# Altium footprint library SOP.PcbLib: 214 footprints (part 8 of 14)
Each footprint in its own frame and in the unit in brackets; x right, y up, seen from the top. Pads: shape width x height; smd on the part's side, far side on the other; paste and mask are expansions set on the pad; w line width, h text height; cw(c..) or ccw(c..) is an arc to the next point about the centre after c.
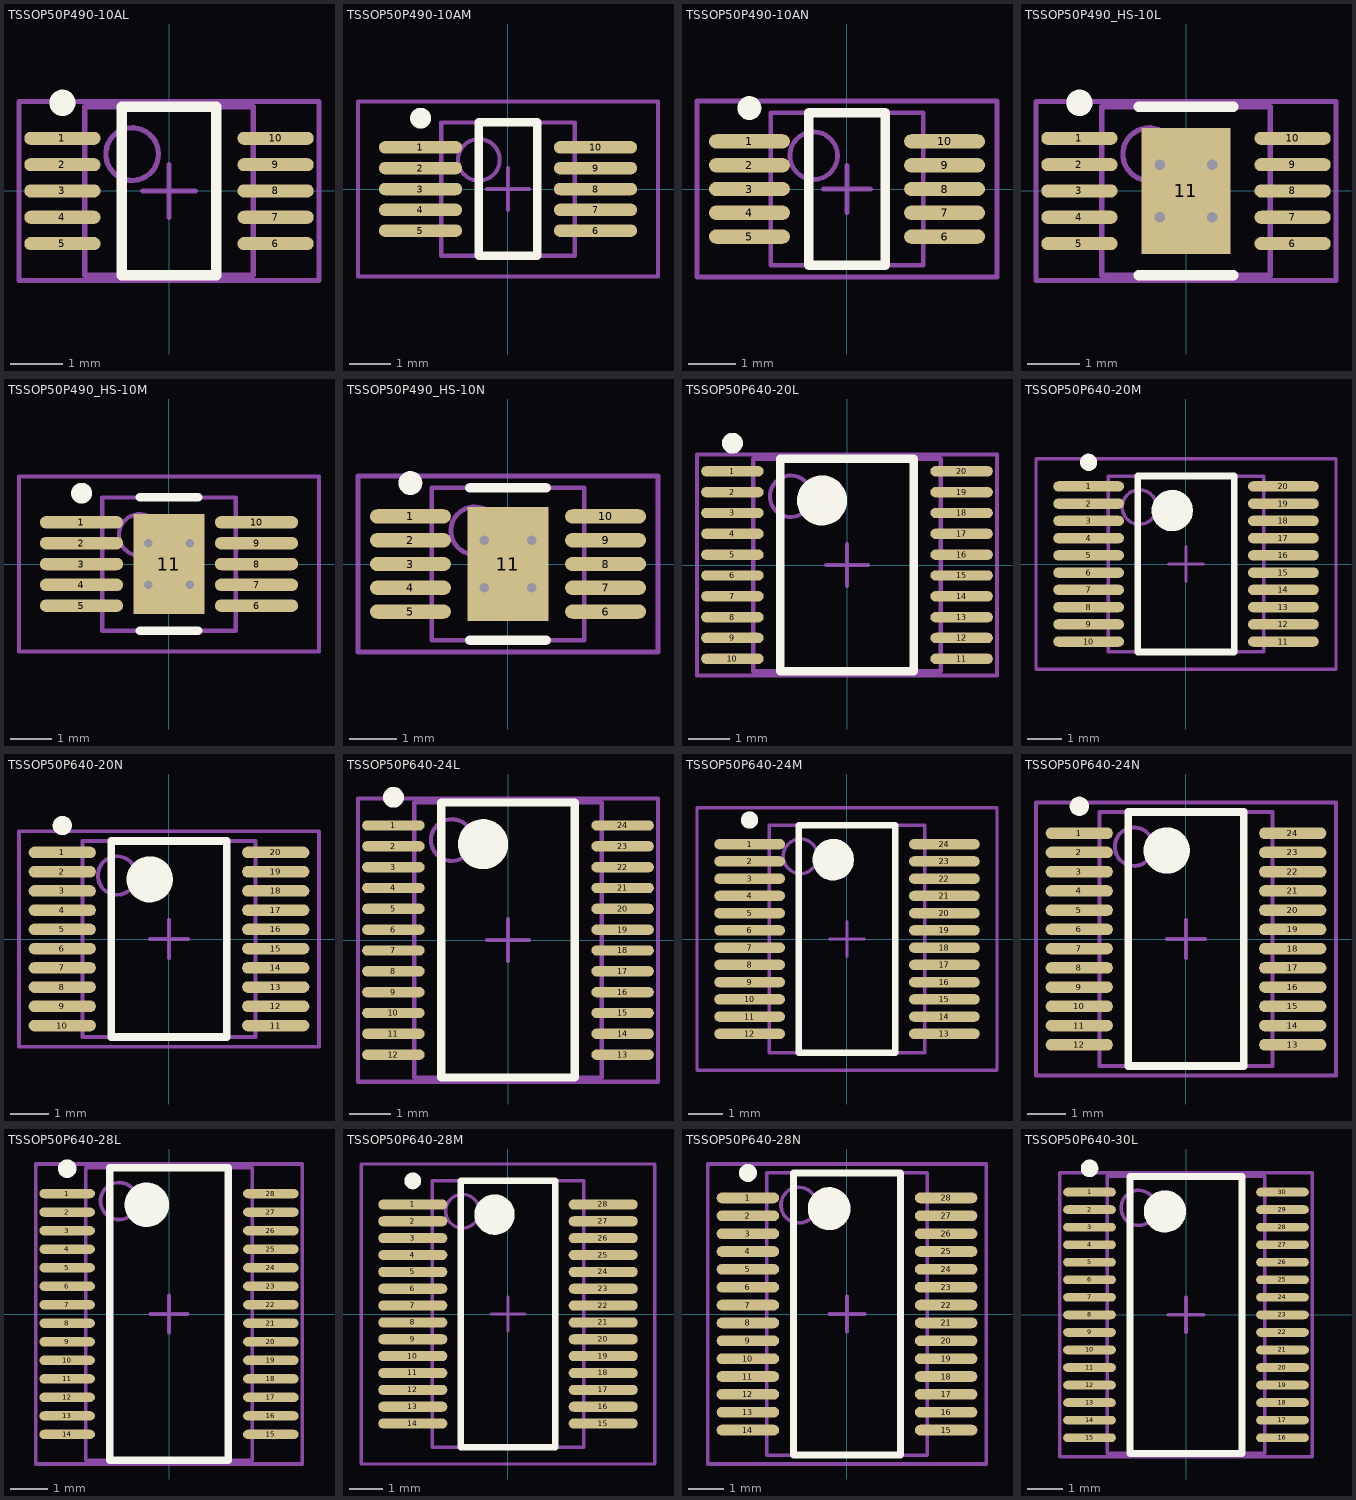
[diagram p7: the footprints below, top view; thin cyan lines are the x and y axes]

## TSSOP50P490-10AL [mm] "TSSOP, 10-Leads, Body 3x3mm, Pitch 0.5mm, IPC High Density"
height 1.1
pads (10):
  oval 1.45x0.25 smd: 1(-2.025,1) 2(-2.025,0.5) 3(-2.025,0) 4(-2.025,-0.5) 5(-2.025,-1) 6(2.025,-1) 7(2.025,-0.5) 8(2.025,0) 9(2.025,0.5) 10(2.025,1)
Top Overlay:
  circle w0.25: c-2.025,1.675 r0.125
  lines w0.2: -0.9,-1.6 -0.9,1.6 0.9,1.6 0.9,-1.6 -0.9,-1.6
Mechanical 13:
  circle w0.1: c-0.7,0.7 r0.5
  lines w0.1: -1.6,-1.6 -1.6,1.6 1.6,1.6 1.6,-1.6 -1.6,-1.6
Mechanical 15:
  lines w0.1: -0.5,0 0.5,0 ; 0,-0.5 0,0.5 ; -2.85,-1.7 -2.85,1.7 2.85,1.7 2.85,-1.7 -2.85,-1.7
3D body: height 1.1, standoff 0, extent -1.6,-1.6 1.6,1.6

## TSSOP50P490-10AM [mm] "TSSOP, 10-Leads, Body 3x3mm, Pitch 0.5mm, IPC Low Density"
height 1.1
pads (10):
  oval 2x0.3 smd: 1(-2.1,1) 2(-2.1,0.5) 3(-2.1,0) 4(-2.1,-0.5) 5(-2.1,-1) 6(2.1,-1) 7(2.1,-0.5) 8(2.1,0) 9(2.1,0.5) 10(2.1,1)
Top Overlay:
  circle w0.25: c-2.1,1.7 r0.125
  lines w0.2: -0.7,-1.6 0.7,-1.6 0.7,1.6 -0.7,1.6 -0.7,-1.6
Mechanical 13:
  circle w0.1: c-0.7,0.7 r0.5
  lines w0.1: -1.6,-1.6 1.6,-1.6 1.6,1.6 -1.6,1.6 -1.6,-1.6
Mechanical 15:
  lines w0.1: -0.5,0 0.5,0 ; 0,-0.5 0,0.5 ; -3.6,-2.1 3.6,-2.1 3.6,2.1 -3.6,2.1 -3.6,-2.1
3D body: height 1.1, standoff 0, extent -1.6,-1.6 1.6,1.6

## TSSOP50P490-10AN [mm] "TSSOP, 10-Leads, Body 3x3mm, Pitch 0.5mm, IPC Medium Density"
height 1.1
pads (10):
  oval 1.7x0.3 smd: 1(-2.05,1) 2(-2.05,0.5) 3(-2.05,0) 4(-2.05,-0.5) 5(-2.05,-1) 6(2.05,-1) 7(2.05,-0.5) 8(2.05,0) 9(2.05,0.5) 10(2.05,1)
Top Overlay:
  circle w0.25: c-2.05,1.7 r0.125
  lines w0.2: -0.8,-1.6 0.8,-1.6 0.8,1.6 -0.8,1.6 -0.8,-1.6
Mechanical 13:
  circle w0.1: c-0.7,0.7 r0.5
  lines w0.1: -1.6,-1.6 1.6,-1.6 1.6,1.6 -1.6,1.6 -1.6,-1.6
Mechanical 15:
  lines w0.1: -0.5,0 0.5,0 ; 0,-0.5 0,0.5 ; -3.15,-1.85 3.15,-1.85 3.15,1.85 -3.15,1.85 -3.15,-1.85
3D body: height 1.1, standoff 0, extent -1.6,-1.6 1.6,1.6

## TSSOP50P490_HS-10L [mm] "TSSOP, 10-Leads, Body 3x3mm, Pitch 0.5mm, Exposed Pad, IPC High Density"
height 1.1
pads (11):
  oval 1.45x0.25 smd: 1(-2.025,1) 2(-2.025,0.5) 3(-2.025,0) 4(-2.025,-0.5) 5(-2.025,-1) 6(2.025,-1) 7(2.025,-0.5) 8(2.025,0) 9(2.025,0.5) 10(2.025,1)
  rect 1.7x2.4 smd: 11(0,0)
via -0.5,0.5 diameter 0.4 hole 0.2
via 0.5,0.5 diameter 0.4 hole 0.2
via -0.5,-0.5 diameter 0.4 hole 0.2
via 0.5,-0.5 diameter 0.4 hole 0.2
Top Overlay:
  circle w0.25: c-2.025,1.675 r0.125
  lines w0.2: -0.9,-1.6 0.9,-1.6 ; -0.9,1.6 0.9,1.6
Mechanical 13:
  circle w0.1: c-0.7,0.7 r0.5
  lines w0.1: -1.6,-1.6 -1.6,1.6 1.6,1.6 1.6,-1.6 -1.6,-1.6
Mechanical 15:
  lines w0.1: -0.5,0 0.5,0 ; 0,-0.5 0,0.5 ; -2.85,-1.7 -2.85,1.7 2.85,1.7 2.85,-1.7 -2.85,-1.7
3D body: height 1.1, standoff 0.05, extent -1.6,-1.6 1.6,1.6

## TSSOP50P490_HS-10M [mm] "TSSOP, 10-Leads, Body 3x3mm, Pitch 0.5mm, Exposed Pad, IPC Low Density"
height 1.1
pads (11):
  oval 2x0.3 smd: 1(-2.1,1) 2(-2.1,0.5) 3(-2.1,0) 4(-2.1,-0.5) 5(-2.1,-1) 6(2.1,-1) 7(2.1,-0.5) 8(2.1,0) 9(2.1,0.5) 10(2.1,1)
  rect 1.7x2.4 smd: 11(0,0)
via -0.5,0.5 diameter 0.4 hole 0.2
via 0.5,0.5 diameter 0.4 hole 0.2
via -0.5,-0.5 diameter 0.4 hole 0.2
via 0.5,-0.5 diameter 0.4 hole 0.2
Top Overlay:
  circle w0.25: c-2.1,1.7 r0.125
  lines w0.2: -0.7,-1.6 0.7,-1.6 ; -0.7,1.6 0.7,1.6
Mechanical 13:
  circle w0.1: c-0.7,0.7 r0.5
  lines w0.1: -1.6,-1.6 1.6,-1.6 1.6,1.6 -1.6,1.6 -1.6,-1.6
Mechanical 15:
  lines w0.1: -0.5,0 0.5,0 ; 0,-0.5 0,0.5 ; -3.6,-2.1 3.6,-2.1 3.6,2.1 -3.6,2.1 -3.6,-2.1
3D body: height 1.1, standoff 0.05, extent -1.6,-1.6 1.6,1.6

## TSSOP50P490_HS-10N [mm] "TSSOP, 10-Leads, Body 3x3mm, Pitch 0.5mm, Exposed Pad, IPC Medium Density"
height 1.1
pads (11):
  oval 1.7x0.3 smd: 1(-2.05,1) 2(-2.05,0.5) 3(-2.05,0) 4(-2.05,-0.5) 5(-2.05,-1) 6(2.05,-1) 7(2.05,-0.5) 8(2.05,0) 9(2.05,0.5) 10(2.05,1)
  rect 1.7x2.4 smd: 11(0,0)
via -0.5,0.5 diameter 0.4 hole 0.2
via 0.5,0.5 diameter 0.4 hole 0.2
via -0.5,-0.5 diameter 0.4 hole 0.2
via 0.5,-0.5 diameter 0.4 hole 0.2
Top Overlay:
  circle w0.25: c-2.05,1.7 r0.125
  lines w0.2: -0.8,-1.6 0.8,-1.6 ; -0.8,1.6 0.8,1.6
Mechanical 13:
  circle w0.1: c-0.7,0.7 r0.5
  lines w0.1: -1.6,-1.6 -1.6,1.6 1.6,1.6 1.6,-1.6 -1.6,-1.6
Mechanical 15:
  lines w0.1: -0.5,0 0.5,0 ; 0,-0.5 0,0.5 ; -3.15,-1.85 -3.15,1.85 3.15,1.85 3.15,-1.85 -3.15,-1.85
3D body: height 1.1, standoff 0.05, extent -1.6,-1.6 1.6,1.6

## TSSOP50P640-20L [mm] "TSSOP, 20-Leads, Body 5x4.4mm, Pitch 0.5mm, IPC High Density"
height 1.2
pads (20):
  oval 1.5x0.25 smd: 1(-2.75,2.25) 2(-2.75,1.75) 3(-2.75,1.25) 4(-2.75,0.75) 5(-2.75,0.25) 6(-2.75,-0.25) 7(-2.75,-0.75) 8(-2.75,-1.25) 9(-2.75,-1.75) 10(-2.75,-2.25) 11(2.75,-2.25) 12(2.75,-1.75) 13(2.75,-1.25) 14(2.75,-0.75) 15(2.75,-0.25) 16(2.75,0.25) 17(2.75,0.75) 18(2.75,1.25) 19(2.75,1.75) 20(2.75,2.25)
Top Overlay:
  circle w0.25: c-2.75,2.925 r0.125
  circle w0.6: c-0.6,1.55 r0.3
  lines w0.2: -1.6,-2.55 -1.6,2.55 1.6,2.55 1.6,-2.55 -1.6,-2.55
Mechanical 13:
  circle w0.1: c-1.35,1.65 r0.5
  lines w0.1: -2.25,-2.55 -2.25,2.55 2.25,2.55 2.25,-2.55 -2.25,-2.55
Mechanical 15:
  lines w0.1: -0.5,0 0.5,0 ; 0,-0.5 0,0.5 ; -3.6,-2.65 -3.6,2.65 3.6,2.65 3.6,-2.65 -3.6,-2.65
3D body: height 1.2, standoff 0, extent -2.25,-2.55 2.25,2.55

## TSSOP50P640-20M [mm] "TSSOP, 20-Leads, Body 5x4.4mm, Pitch 0.5mm, IPC Low Density"
height 1.2
pads (20):
  oval 2.05x0.3 smd: 1(-2.825,2.25) 2(-2.825,1.75) 3(-2.825,1.25) 4(-2.825,0.75) 5(-2.825,0.25) 6(-2.825,-0.25) 7(-2.825,-0.75) 8(-2.825,-1.25) 9(-2.825,-1.75) 10(-2.825,-2.25) 11(2.825,-2.25) 12(2.825,-1.75) 13(2.825,-1.25) 14(2.825,-0.75) 15(2.825,-0.25) 16(2.825,0.25) 17(2.825,0.75) 18(2.825,1.25) 19(2.825,1.75) 20(2.825,2.25)
Top Overlay:
  circle w0.25: c-2.825,2.95 r0.125
  circle w0.6: c-0.4,1.55 r0.3
  lines w0.2: -1.4,-2.55 -1.4,2.55 1.4,2.55 1.4,-2.55 -1.4,-2.55
Mechanical 13:
  circle w0.1: c-1.35,1.65 r0.5
  lines w0.1: -2.25,-2.55 -2.25,2.55 2.25,2.55 2.25,-2.55 -2.25,-2.55
Mechanical 15:
  lines w0.1: -0.5,0 0.5,0 ; 0,-0.5 0,0.5 ; -4.35,-3.05 -4.35,3.05 4.35,3.05 4.35,-3.05 -4.35,-3.05
3D body: height 1.2, standoff 0, extent -2.25,-2.55 2.25,2.55

## TSSOP50P640-20N [mm] "TSSOP, 20-Leads, Body 5x4.4mm, Pitch 0.5mm, IPC Medium Density"
height 1.2
pads (20):
  oval 1.75x0.3 smd: 1(-2.775,2.25) 2(-2.775,1.75) 3(-2.775,1.25) 4(-2.775,0.75) 5(-2.775,0.25) 6(-2.775,-0.25) 7(-2.775,-0.75) 8(-2.775,-1.25) 9(-2.775,-1.75) 10(-2.775,-2.25) 11(2.775,-2.25) 12(2.775,-1.75) 13(2.775,-1.25) 14(2.775,-0.75) 15(2.775,-0.25) 16(2.775,0.25) 17(2.775,0.75) 18(2.775,1.25) 19(2.775,1.75) 20(2.775,2.25)
Top Overlay:
  circle w0.6: c-0.5,1.55 r0.3
  circle w0.25: c-2.775,2.95 r0.125
  lines w0.2: -1.5,-2.55 1.5,-2.55 1.5,2.55 -1.5,2.55 -1.5,-2.55
Mechanical 13:
  circle w0.1: c-1.35,1.65 r0.5
  lines w0.1: -2.25,-2.55 2.25,-2.55 2.25,2.55 -2.25,2.55 -2.25,-2.55
Mechanical 15:
  lines w0.1: -0.5,0 0.5,0 ; 0,-0.5 0,0.5 ; -3.9,-2.8 3.9,-2.8 3.9,2.8 -3.9,2.8 -3.9,-2.8
3D body: height 1.2, standoff 0, extent -2.25,-2.55 2.25,2.55

## TSSOP50P640-24L [mm] "TSSOP, 24-Leads, Body 6.5x4.4mm, Pitch 0.5mm, IPC High Density"
height 1.2
pads (24):
  oval 1.5x0.25 smd: 1(-2.75,2.75) 2(-2.75,2.25) 3(-2.75,1.75) 4(-2.75,1.25) 5(-2.75,0.75) 6(-2.75,0.25) 7(-2.75,-0.25) 8(-2.75,-0.75) 9(-2.75,-1.25) 10(-2.75,-1.75) 11(-2.75,-2.25) 12(-2.75,-2.75) 13(2.75,-2.75) 14(2.75,-2.25) 15(2.75,-1.75) 16(2.75,-1.25) 17(2.75,-0.75) 18(2.75,-0.25) 19(2.75,0.25) 20(2.75,0.75) 21(2.75,1.25) 22(2.75,1.75) 23(2.75,2.25) 24(2.75,2.75)
Top Overlay:
  circle w0.6: c-0.6,2.3 r0.3
  circle w0.25: c-2.75,3.425 r0.125
  lines w0.2: -1.6,-3.3 1.6,-3.3 1.6,3.3 -1.6,3.3 -1.6,-3.3
Mechanical 13:
  circle w0.1: c-1.35,2.4 r0.5
  lines w0.1: -2.25,-3.3 2.25,-3.3 2.25,3.3 -2.25,3.3 -2.25,-3.3
Mechanical 15:
  lines w0.1: -0.5,0 0.5,0 ; 0,-0.5 0,0.5 ; -3.6,-3.4 3.6,-3.4 3.6,3.4 -3.6,3.4 -3.6,-3.4
3D body: height 1.2, standoff 0, extent -2.25,-3.3 2.25,3.3

## TSSOP50P640-24M [mm] "TSSOP, 24-Leads, Body 6.5x4.4mm, Pitch 0.5mm, IPC Low Density"
height 1.2
pads (24):
  oval 2.05x0.3 smd: 1(-2.825,2.75) 2(-2.825,2.25) 3(-2.825,1.75) 4(-2.825,1.25) 5(-2.825,0.75) 6(-2.825,0.25) 7(-2.825,-0.25) 8(-2.825,-0.75) 9(-2.825,-1.25) 10(-2.825,-1.75) 11(-2.825,-2.25) 12(-2.825,-2.75) 13(2.825,-2.75) 14(2.825,-2.25) 15(2.825,-1.75) 16(2.825,-1.25) 17(2.825,-0.75) 18(2.825,-0.25) 19(2.825,0.25) 20(2.825,0.75) 21(2.825,1.25) 22(2.825,1.75) 23(2.825,2.25) 24(2.825,2.75)
Top Overlay:
  circle w0.6: c-0.4,2.3 r0.3
  circle w0.25: c-2.825,3.45 r0.125
  lines w0.2: -1.4,-3.3 1.4,-3.3 1.4,3.3 -1.4,3.3 -1.4,-3.3
Mechanical 13:
  circle w0.1: c-1.35,2.4 r0.5
  lines w0.1: -2.25,-3.3 2.25,-3.3 2.25,3.3 -2.25,3.3 -2.25,-3.3
Mechanical 15:
  lines w0.1: -0.5,0 0.5,0 ; 0,-0.5 0,0.5 ; -4.35,-3.8 4.35,-3.8 4.35,3.8 -4.35,3.8 -4.35,-3.8
3D body: height 1.2, standoff 0, extent -2.25,-3.3 2.25,3.3

## TSSOP50P640-24N [mm] "TSSOP, 24-Leads, Body 6.5x4.4mm, Pitch 0.5mm, IPC Medium Density"
height 1.2
pads (24):
  oval 1.75x0.3 smd: 1(-2.775,2.75) 2(-2.775,2.25) 3(-2.775,1.75) 4(-2.775,1.25) 5(-2.775,0.75) 6(-2.775,0.25) 7(-2.775,-0.25) 8(-2.775,-0.75) 9(-2.775,-1.25) 10(-2.775,-1.75) 11(-2.775,-2.25) 12(-2.775,-2.75) 13(2.775,-2.75) 14(2.775,-2.25) 15(2.775,-1.75) 16(2.775,-1.25) 17(2.775,-0.75) 18(2.775,-0.25) 19(2.775,0.25) 20(2.775,0.75) 21(2.775,1.25) 22(2.775,1.75) 23(2.775,2.25) 24(2.775,2.75)
Top Overlay:
  circle w0.25: c-2.775,3.45 r0.125
  circle w0.6: c-0.5,2.3 r0.3
  lines w0.2: -1.5,-3.3 -1.5,3.3 1.5,3.3 1.5,-3.3 -1.5,-3.3
Mechanical 13:
  circle w0.1: c-1.35,2.4 r0.5
  lines w0.1: -2.25,-3.3 -2.25,3.3 2.25,3.3 2.25,-3.3 -2.25,-3.3
Mechanical 15:
  lines w0.1: -0.5,0 0.5,0 ; 0,-0.5 0,0.5 ; -3.9,-3.55 -3.9,3.55 3.9,3.55 3.9,-3.55 -3.9,-3.55
3D body: height 1.2, standoff 0, extent -2.25,-3.3 2.25,3.3

## TSSOP50P640-28L [mm] "TSSOP, 28-Leads, Body 7.8x4.4mm, Pitch 0.5mm, IPC High Density"
height 1.2
pads (28):
  oval 1.5x0.25 smd: 1(-2.75,3.25) 2(-2.75,2.75) 3(-2.75,2.25) 4(-2.75,1.75) 5(-2.75,1.25) 6(-2.75,0.75) 7(-2.75,0.25) 8(-2.75,-0.25) 9(-2.75,-0.75) 10(-2.75,-1.25) 11(-2.75,-1.75) 12(-2.75,-2.25) 13(-2.75,-2.75) 14(-2.75,-3.25) 15(2.75,-3.25) 16(2.75,-2.75) 17(2.75,-2.25) 18(2.75,-1.75) 19(2.75,-1.25) 20(2.75,-0.75) 21(2.75,-0.25) 22(2.75,0.25) 23(2.75,0.75) 24(2.75,1.25) 25(2.75,1.75) 26(2.75,2.25) 27(2.75,2.75) 28(2.75,3.25)
Top Overlay:
  circle w0.6: c-0.6,2.95 r0.3
  circle w0.25: c-2.75,3.925 r0.125
  lines w0.2: -1.6,-3.95 1.6,-3.95 1.6,3.95 -1.6,3.95 -1.6,-3.95
Mechanical 13:
  circle w0.1: c-1.35,3.05 r0.5
  lines w0.1: -2.25,-3.95 2.25,-3.95 2.25,3.95 -2.25,3.95 -2.25,-3.95
Mechanical 15:
  lines w0.1: -0.5,0 0.5,0 ; 0,-0.5 0,0.5 ; -3.6,-4.05 3.6,-4.05 3.6,4.05 -3.6,4.05 -3.6,-4.05
3D body: height 1.2, standoff 0, extent -2.25,-3.95 2.25,3.95

## TSSOP50P640-28M [mm] "TSSOP, 28-Leads, Body 7.8x4.4mm, Pitch 0.5mm, IPC Low Density"
height 1.2
pads (28):
  oval 2.05x0.3 smd: 1(-2.825,3.25) 2(-2.825,2.75) 3(-2.825,2.25) 4(-2.825,1.75) 5(-2.825,1.25) 6(-2.825,0.75) 7(-2.825,0.25) 8(-2.825,-0.25) 9(-2.825,-0.75) 10(-2.825,-1.25) 11(-2.825,-1.75) 12(-2.825,-2.25) 13(-2.825,-2.75) 14(-2.825,-3.25) 15(2.825,-3.25) 16(2.825,-2.75) 17(2.825,-2.25) 18(2.825,-1.75) 19(2.825,-1.25) 20(2.825,-0.75) 21(2.825,-0.25) 22(2.825,0.25) 23(2.825,0.75) 24(2.825,1.25) 25(2.825,1.75) 26(2.825,2.25) 27(2.825,2.75) 28(2.825,3.25)
Top Overlay:
  circle w0.6: c-0.4,2.95 r0.3
  circle w0.25: c-2.825,3.95 r0.125
  lines w0.2: -1.4,-3.95 1.4,-3.95 1.4,3.95 -1.4,3.95 -1.4,-3.95
Mechanical 13:
  circle w0.1: c-1.35,3.05 r0.5
  lines w0.1: -2.25,-3.95 2.25,-3.95 2.25,3.95 -2.25,3.95 -2.25,-3.95
Mechanical 15:
  lines w0.1: -0.5,0 0.5,0 ; 0,-0.5 0,0.5 ; -4.35,-4.45 4.35,-4.45 4.35,4.45 -4.35,4.45 -4.35,-4.45
3D body: height 1.2, standoff 0, extent -2.25,-3.95 2.25,3.95

## TSSOP50P640-28N [mm] "TSSOP, 28-Leads, Body 7.8x4.4mm, Pitch 0.5mm, IPC Medium Density"
height 1.2
pads (28):
  oval 1.75x0.3 smd: 1(-2.775,3.25) 2(-2.775,2.75) 3(-2.775,2.25) 4(-2.775,1.75) 5(-2.775,1.25) 6(-2.775,0.75) 7(-2.775,0.25) 8(-2.775,-0.25) 9(-2.775,-0.75) 10(-2.775,-1.25) 11(-2.775,-1.75) 12(-2.775,-2.25) 13(-2.775,-2.75) 14(-2.775,-3.25) 15(2.775,-3.25) 16(2.775,-2.75) 17(2.775,-2.25) 18(2.775,-1.75) 19(2.775,-1.25) 20(2.775,-0.75) 21(2.775,-0.25) 22(2.775,0.25) 23(2.775,0.75) 24(2.775,1.25) 25(2.775,1.75) 26(2.775,2.25) 27(2.775,2.75) 28(2.775,3.25)
Top Overlay:
  circle w0.25: c-2.775,3.95 r0.125
  circle w0.6: c-0.5,2.95 r0.3
  lines w0.2: -1.5,-3.95 -1.5,3.95 1.5,3.95 1.5,-3.95 -1.5,-3.95
Mechanical 13:
  circle w0.1: c-1.35,3.05 r0.5
  lines w0.1: -2.25,-3.95 -2.25,3.95 2.25,3.95 2.25,-3.95 -2.25,-3.95
Mechanical 15:
  lines w0.1: -0.5,0 0.5,0 ; 0,-0.5 0,0.5 ; -3.9,-4.2 -3.9,4.2 3.9,4.2 3.9,-4.2 -3.9,-4.2
3D body: height 1.2, standoff 0, extent -2.25,-3.95 2.25,3.95

## TSSOP50P640-30L [mm] "TSSOP, 30-Leads, Body 7.8x4.4mm, Pitch 0.5mm, IPC High Density"
height 1.2
pads (30):
  oval 1.5x0.25 smd: 1(-2.75,3.5) 2(-2.75,3) 3(-2.75,2.5) 4(-2.75,2) 5(-2.75,1.5) 6(-2.75,1) 7(-2.75,0.5) 8(-2.75,0) 9(-2.75,-0.5) 10(-2.75,-1) 11(-2.75,-1.5) 12(-2.75,-2) 13(-2.75,-2.5) 14(-2.75,-3) 15(-2.75,-3.5) 16(2.75,-3.5) 17(2.75,-3) 18(2.75,-2.5) 19(2.75,-2) 20(2.75,-1.5) 21(2.75,-1) 22(2.75,-0.5) 23(2.75,0) 24(2.75,0.5) 25(2.75,1) 26(2.75,1.5) 27(2.75,2) 28(2.75,2.5) 29(2.75,3) 30(2.75,3.5)
Top Overlay:
  circle w0.6: c-0.6,2.95 r0.3
  circle w0.25: c-2.75,4.175 r0.125
  lines w0.2: -1.6,-3.95 1.6,-3.95 1.6,3.95 -1.6,3.95 -1.6,-3.95
Mechanical 13:
  circle w0.1: c-1.35,3.05 r0.5
  lines w0.1: -2.25,-3.95 2.25,-3.95 2.25,3.95 -2.25,3.95 -2.25,-3.95
Mechanical 15:
  lines w0.1: -0.5,0 0.5,0 ; 0,-0.5 0,0.5 ; -3.6,-4.05 3.6,-4.05 3.6,4.05 -3.6,4.05 -3.6,-4.05
3D body: height 1.2, standoff 0, extent -2.25,-3.95 2.25,3.95